# Altium footprint library SC_RELAY_SPDT_16MMX22MM.PcbLib: 1 footprints
Each footprint in its own frame and in the unit in brackets; x right, y up, seen from the top. Pads: shape width x height; smd on the part's side, far side on the other; paste and mask are expansions set on the pad; w line width, h text height; cw(c..) or ccw(c..) is an arc to the next point about the centre after c.
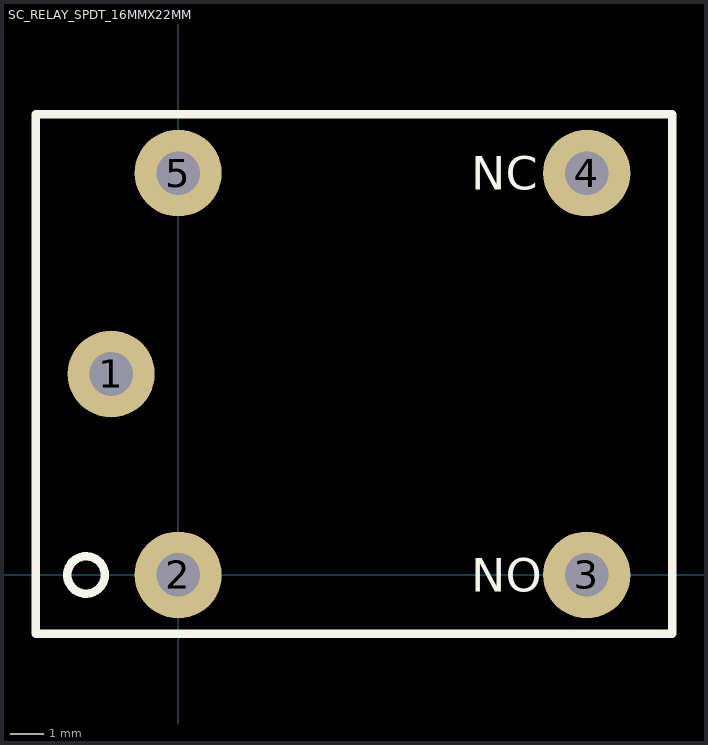
[diagram p0: the footprint, top view; thin cyan lines are the x and y axes]

## SC_RELAY_SPDT_16MMX22MM [mm] "Relay Finder 36.11.9.005.4001 / Omron G5LE-1 / Multicomp MCHRS4FH-S-DC5V-C / Imo Precision Controls SRM-1C-SL-5VDC"
pads (5):
  round 2.6 hole 1.3: 1(-2,6) 2(0,0) 3(12.2,0) 4(12.2,12) 5(0,12)
Top Overlay:
  circle w0.254: c-2.75,0 r0.559
  lines w0.254: -4.25,-1.75 -4.25,13.75 14.75,13.75 14.75,-1.75 -4.25,-1.75
  text "NO" at 8.75,-0.5 h1
  text "NC" at 8.75,11.5 h1
3D body: height 16, standoff 0, extent -4.377,-1.877 14.877,13.877